# EAGLE library part FAN7388 (library archived)
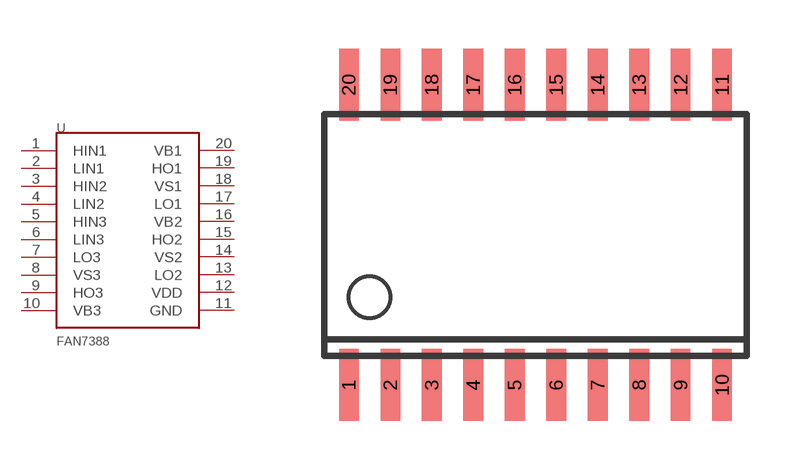
[diagram p6: symbol with the pads of SO20W; footprint SO20W]

Designator prefix -

## FAN7388  [SO20W]
1  HIN1
2  LIN1
3  HIN2
4  LIN2
5  HIN3
6  LIN3
7  LO3
8  VS3
9  HO3
10  VB3
11  GND
12  VDD
13  LO2
14  VS2
15  HO2
16  VB2
17  LO1
18  VS1
19  HO1
20  VB1

## Footprint SO20W (pad centres in mm)
SMALL OUTLINE INTEGRATED CIRCUIT wide body 7.5 mm/JEDEC MS-013AC Not sure where I got this from, but successfully used with the FAN7388.
smd 0.6 x 2.2: 1 -5.715,-4.6; 2 -4.445,-4.6; 3 -3.175,-4.6; 4 -1.905,-4.6; 5 -0.635,-4.6; 6 0.635,-4.6; 7 1.905,-4.6; 8 3.175,-4.6; 9 4.445,-4.6; 10 5.715,-4.6; 11 5.715,4.6; 12 4.445,4.6; 13 3.175,4.6; 14 1.905,4.6; 15 0.635,4.6; 16 -0.635,4.6; 17 -1.905,4.6; 18 -3.175,4.6; 19 -4.445,4.6; 20 -5.715,4.6